# EAGLE library part LTC1518 (library opamps)
LTC1518: RS485 line receiver (Linear Technology) 52Mbps, +5V supply
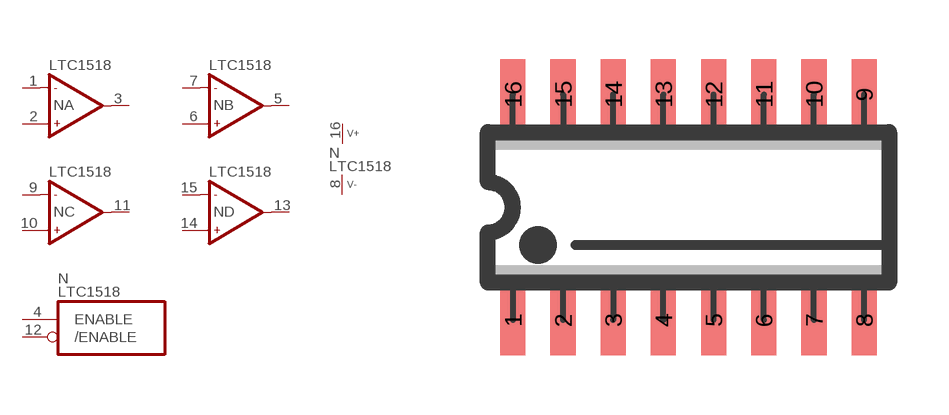
[diagram p276: symbol with the pads of SO16; footprint SO16]

Designator prefix N; gates A=OP-NAME B=OP-NAME C=OP-NAME D=OP-NAME P=V+- E=ENABLE2

## LTC1518  [SO16]
1  A:IN-  in
2  A:IN+  in
3  A:OUT  out
4  E:ENABLE  in
5  B:OUT  out
6  B:IN+  in
7  B:IN-  in
8  P:V-  pwr
9  C:IN-  in
10  C:IN+  in
11  C:OUT  out
12  E:/ENABLE  in
13  D:OUT  out
14  D:IN+  in
15  D:IN-  in
16  P:V+  pwr

## Footprint SO16 (pad centres in mm)
SO-16, SMD SOIC IC package, 16 pins
smd 0.635 x 1.778: 1 -4.445,-2.857; 2 -3.175,-2.857; 3 -1.905,-2.857; 4 -0.635,-2.857; 5 0.635,-2.857; 6 1.905,-2.857; 7 3.175,-2.857; 8 4.445,-2.857; 9 4.445,2.857; 10 3.175,2.857; 11 1.905,2.857; 12 0.635,2.857; 13 -0.635,2.857; 14 -1.905,2.857; 15 -3.175,2.857; 16 -4.445,2.857